# Altium footprint library HDR-2.54-10P.PcbLib: 1 footprints
Each footprint in its own frame and in the unit in brackets; x right, y up, seen from the top. Pads: shape width x height; smd on the part's side, far side on the other; paste and mask are expansions set on the pad; w line width, h text height; cw(c..) or ccw(c..) is an arc to the next point about the centre after c.
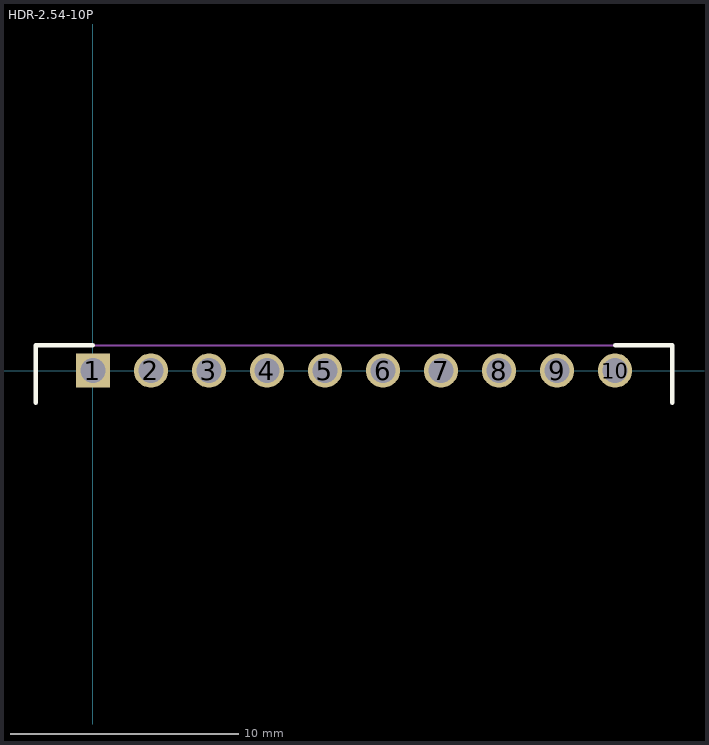
[diagram p0: the footprint, top view; thin cyan lines are the x and y axes]

## HDR-2.54-10P [mm] "Connector;Header;Female;Pitch 2.54mm;10x1 Position"
height 10
pads (10):
  rect 1.5x1.5 hole 1.1: 1(0,0)
  round 1.5 hole 1.1: 2(2.54,0) 3(5.08,0) 4(7.62,0) 5(10.16,0) 6(12.7,0) 7(15.24,0) 8(17.78,0) 9(20.32,0) 10(22.86,0)
Top Overlay:
  lines w0.2: -2.5,-1.4 -2.5,1.1 0,1.1 ; 22.86,1.1 25.36,1.1 25.36,-1.4
Mechanical 15:
  lines w0.1: -2.5,-1.4 -2.5,1.1 25.36,1.1 ; 25.36,-1.4 25.36,1.1
3D body: height 8, standoff 0, extent 24.86,-8.9 25.36,1.1
3D body: height 5, standoff 4.2, extent 22.42,-7 23.3,0
3D body: height 5, standoff 4.2, extent 19.88,-7 20.76,0
3D body: height 5, standoff 4.2, extent 17.34,-7 18.22,0
3D body: height 5, standoff 4.2, extent 14.8,-7 15.68,0
3D body: height 5, standoff 4.2, extent 12.26,-7 13.14,0
3D body: height 5, standoff 4.2, extent 9.72,-7 10.6,0
3D body: height 5, standoff 4.2, extent 7.18,-7 8.06,0
3D body: height 5, standoff 4.2, extent 4.64,-7 5.52,0
3D body: height 5, standoff 4.2, extent 2.1,-7 2.98,0
3D body: height 0.5, standoff -3, extent -0.449,-0.449 0.449,0.449
3D body: height 0.5, standoff -3, extent 2.091,-0.449 2.989,0.449
3D body: height 0.5, standoff -3, extent 4.631,-0.449 5.529,0.449
3D body: height 0.5, standoff -3, extent 7.171,-0.449 8.069,0.449
3D body: height 0.5, standoff -3, extent 9.711,-0.449 10.609,0.449
3D body: height 0.5, standoff -3, extent 12.251,-0.449 13.149,0.449
3D body: height 0.5, standoff -3, extent 14.791,-0.449 15.689,0.449
3D body: height 0.5, standoff -3, extent 17.331,-0.449 18.229,0.449
3D body: height 0.5, standoff -3, extent 19.871,-0.449 20.769,0.449
3D body: height 0.5, standoff -3, extent 22.411,-0.449 23.309,0.449
3D body: height 8, standoff 0, extent -2.5,-8.9 -2,1.1
3D body: height 1, standoff 0, extent -2.5,-8.9 25.36,1.1
3D body: height 2, standoff 0, extent 0,-8.9 22.86,1.1
3D body: height 8, standoff 0, extent -2.5,-0.9 25.4,1.1
3D body: height 5, standoff 4.2, extent -0.44,-7 0.44,0
3D body: height 8, standoff 6, extent -2.5,-8.9 25.36,1.1